# Altium schematic symbol library gps-tag-lora-addon.SchLib: 9 symbols
Pins are listed as number, name and electrical type; pins without a type are passive.

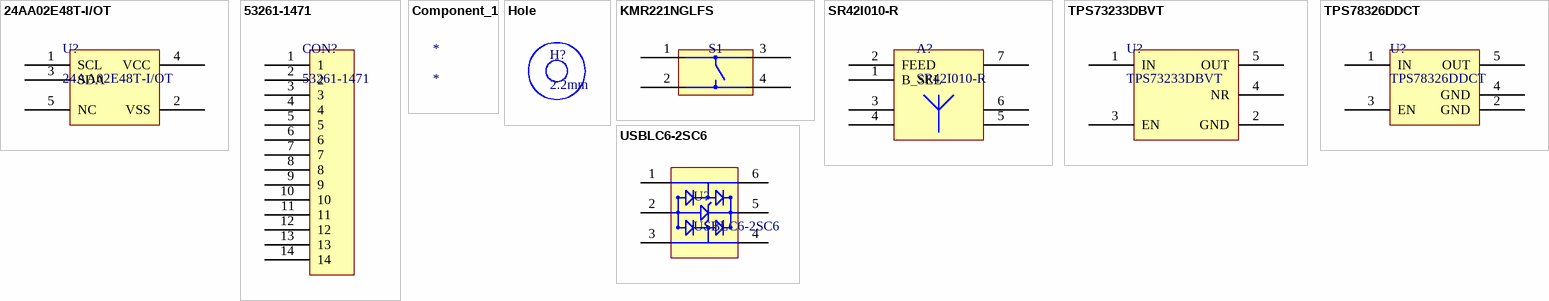
[diagram p0: symbols 24AA02E48T-I/OT to USBLC6-2SC6]

## 24AA02E48T-I/OT
designator U?
MICROCHIP   24AA02E48T-I/OT   EEPROM, EUI-48 Node Identity, 2 Kbit, 2 BLK (128K x 8bit), 400 kHz, I2C, SOT-23, 5 Pins; Interface: I2C,Serial; Access Time: 3500ns; Frequency: 400kHz; Max Supply Voltage: 5.5V; Min Supply Voltage: 1.7V; Nominal Supply Current: 3mA; Density: 2Kb; Operating Supply Voltage: 5V; Max Frequency: 100kHz; Supplier 1: Farnell; Manufacturer: Microchip; Manufacturer Part Number: 24AA02E48T-I/OT; Stock 1: 13638; Pricing 1: 1 = 0.17600, 10 = 0.17100, 25 = 0.16400, 50 = 0.16000, 100 = 0.15600 (GBP); RoHS: Yes; Mount: Surface Mount; Case/Package: SOT-23; Number of Pins: 5; Min Operating Temperature: -40°C; Max Operating Temperature: 85°C; Packaging: Tape and Reel; Package Quantity: 3000; Memory Type: EEPROM; Memory Size: 2Kb; Termination: SMD/SMT; Length: 3.1mm; Height: 1.3mm; Width: 1.8mm; Radiation Hardening: No; REACH SVHC: No SVHC; Lead Free: Lead Free; ComponentLink1URL: http://www.farnell.com/datasheets/1725195.pdf?src-supplier=Element14; ComponentLink1Description: http://www.farnell.com/datasheets/1725195.pdf?src-supplier=Element14; ComponentLink2URL: http://www.farnell.com/datasheets/631538.pdf?src-supplier=Element14; ComponentLink2Description: http://www.farnell.com/datasheets/631538.pdf?src-supplier=Element14; ComponentLink3URL: http://ww1.microchip.com/downloads/en/DeviceDoc/22124D.pdf?src-supplier=Avnet+Europe; ComponentLink3Description: http://ww1.microchip.com/downloads/en/DeviceDoc/22124D.pdf?src-supplier=Avnet+Europe; ComponentLink4URL: http://www.microchip.com/mymicrochip/filehandler.aspx?ddocname=en538826&src-supplier=Future+Electronics; ComponentLink4Description: http://www.microchip.com/mymicrochip/filehandler.aspx?ddocname=en538826&src-supplier=Future+Electronics; ComponentLink5URL: http://www.produktinfo.conrad.com/datenblaetter/650000-674999/651228-da-01-en-EEPROM_24AA02E48T_I_OT_SOT_23_5_MCP.pdf?src-supplier=Conrad; ComponentLink5Description: http://www.produktinfo.conrad.com/datenblaetter/650000-674999/651228-da-01-en-EEPROM_24AA02E48T_I_OT_SOT_23_5_MCP.pdf?src-supplier=Conrad; Supplier Part Number 1: 1688855
footprint SOT95P280X145-5N (SOT23, 5-Leads, Body 2.90x2.80mm, Pitch 0.95mm, IPC Medium Density)
pins: 1 SCL, 2 VSS, 3 SDA, 4 VCC, 5 NC

## 53261-1471
designator CON?
1.25mm (.049") Pitch PicoBlade Header, Surface Mount, Right Angle, Lead-free, 14 Circuits; Manufacturer: Molex; Body Plating: Tin; Current Rating: 1A; Voltage Rating (AC): 125V; Contact Resistance: 20mR; Number of Positions: 14; Insulation Resistance: 100MR; Gender: Male; Glow Wire Compliant: Non-compliant; Supplier 1: Farnell; Manufacturer Part Number: 53261-1471; Stock 1: 2619; Pricing 1: 10 = 1.74000, 50 = 1.63000, 100 = 1.51000, 250 = 1.37000, 500 = 1.09000, 1500 = 0.96100 (GBP); Mount: Surface Mount; Contact Plating: Tin; Contact Material: Brass,Bronze,Tin; Color: Beige; Housing Material: Thermoplastic; Min Operating Temperature: -40°C; Max Operating Temperature: 85°C; Number of Rows: 1; Voltage Rating: 125V; Package Quantity: 1000; Packaging: Tape and Reel; Termination: SMD/SMT; Number of Contacts: 14; Working Voltage: 125V; Orientation: Right Angle; Number of Circuits: 14; Voltage Rating (DC): 125V; Height: 3.4mm; Lead Pitch: 1.25mm; Pitch: 1.25mm; Radiation Hardening: No; REACH SVHC: Unknown; Lead Free: Lead Free; ComponentLink1URL: http://www.onlinecomponents.com/productFiles/mf-MOL/318250532611471_pcb_headers.pdf?src-supplier=Onlinecomponents.com; ComponentLink1Description: http://www.onlinecomponents.com/productFiles/mf-MOL/318250532611471_pcb_headers.pdf?src-supplier=Onlinecomponents.com; ComponentLink2URL: http://uk.rs-online.com/webdocs/13c4/0900766b813c44d0.pdf?src-supplier=RSComponents; ComponentLink2Description: http://uk.rs-online.com/webdocs/13c4/0900766b813c44d0.pdf?src-supplier=RSComponents; ComponentLink3URL: https://www.distrelec.biz/Web/Downloads/74/_e/gh116861-116874_e.pdf?mime=application%2Fpdf&src-supplier=Distrelec; ComponentLink3Description: https://www.distrelec.biz/Web/Downloads/74/_e/gh116861-116874_e.pdf?mime=application%2Fpdf&src-supplier=Distrelec; ComponentLink4URL: http://www.farnell.com/datasheets/1767586.pdf?src-supplier=Element14; ComponentLink4Description: http://www.farnell.com/datasheets/1767586.pdf?src-supplier=Element14; ComponentLink5URL: http://www.mouser.com/ds/2/276/0532611471_PCB_HEADERS-256969.pdf?src-supplier=Mouser; ComponentLink5Description: http://www.mouser.com/ds/2/276/0532611471_PCB_HEADERS-256969.pdf?src-supplier=Mouser; ComponentLink6URL: http://datasheet.octopart.com/532611471-Molex-datasheet-8343080.pdf?src-supplier=TME; ComponentLink6Description: http://datasheet.octopart.com/532611471-Molex-datasheet-8343080.pdf?src-supplier=TME; ComponentLink7URL: http://datasheet.octopart.com/53261-1471-Molex-datasheet-13786036.pdf?src-supplier=Molex; ComponentLink7Description: http://datasheet.octopart.com/53261-1471-Molex-datasheet-13786036.pdf?src-supplier=Molex; ComponentLink8URL: http://sigma.octopart.com/16413766/technical_drawing/Molex-53261-1471.pdf?src-supplier=Molex; ComponentLink8Description: http://sigma.octopart.com/16413766/technical_drawing/Molex-53261-1471.pdf?src-supplier=Molex; ComponentLink9URL: http://datasheet.octopart.com/53261-1471-Molex-datasheet-120153911.pdf?src-supplier=Allied+Electronics; ComponentLink9Description: http://datasheet.octopart.com/53261-1471-Molex-datasheet-120153911.pdf?src-supplier=Allied+Electronics; ComponentLink10URL: http://datasheet.octopart.com/0532611471-Molex-datasheet-11835648.pdf?src-supplier=Newark; ComponentLink10Description: http://datasheet.octopart.com/0532611471-Molex-datasheet-11835648.pdf?src-supplier=Newark; ComponentLink11URL: http://datasheet.octopart.com/53261-1471-Molex-datasheet-82508140.pdf?src-supplier=Farnell; ComponentLink11Description: http://datasheet.octopart.com/53261-1471-Molex-datasheet-82508140.pdf?src-supplier=Farnell; ComponentLink12URL: http://datasheet.octopart.com/53261-1471-Molex-datasheet-130544.pdf?src-supplier=Digi-Key; ComponentLink12Description: http://datasheet.octopart.com/53261-1471-Molex-datasheet-130544.pdf?src-supplier=Digi-Key; ComponentLink13URL: http://datasheet.octopart.com/532611471-Molex-datasheet-509611.pdf?src-supplier=Farnell; ComponentLink13Description: http://datasheet.octopart.com/532611471-Molex-datasheet-509611.pdf?src-supplier=Farnell; ComponentLink14URL: http://datasheet.octopart.com/53261-1471-Molex-datasheet-11023919.pdf?src-supplier=Farnell; ComponentLink14Description: http://datasheet.octopart.com/53261-1471-Molex-datasheet-11023919.pdf?src-supplier=Farnell; ComponentLink15URL: http://datasheet.octopart.com/53261-1471-Molex-datasheet-100429.pdf?src-supplier=Element14; ComponentLink15Description: http://datasheet.octopart.com/53261-1471-Molex-datasheet-100429.pdf?src-supplier=Element14; ComponentLink16URL: http://datasheet.octopart.com/53261-1471-Molex-datasheet-8522546.pdf?src-supplier=Element14; ComponentLink16Description: http://datasheet.octopart.com/53261-1471-Molex-datasheet-8522546.pdf?src-supplier=Element14; ComponentLink17URL: http://datasheet.octopart.com/53261-1471-Molex-datasheet-23710581.pdf?src-supplier=Electro+Sonic; ComponentLink17Description: http://datasheet.octopart.com/53261-1471-Molex-datasheet-23710581.pdf?src-supplier=Electro+Sonic; ComponentLink18URL: http://datasheet.octopart.com/53261-1471-Molex-datasheet-34442330.pdf?src-supplier=Allied+Electronics; ComponentLink18Description: http://datasheet.octopart.com/53261-1471-Molex-datasheet-34442330.pdf?src-supplier=Allied+Electronics; ComponentLink19URL: http://datasheet.octopart.com/53261-1471-Molex-datasheet-48284398.pdf?src-supplier=Newark; ComponentLink19Description: http://datasheet.octopart.com/53261-1471-Molex-datasheet-48284398.pdf?src-supplier=Newark; Supplier Part Number 1: 1125364
footprint 53261-1471
pins: 1, 2, 3, 4, 5, 6, 7, 8, 9, 10, 11, 12, 13, 14

## Component_1
designator *

## Hole
designator H?, comment 2.2mm  (no BOM)
footprint hole

## KMR221NGLFS
designator S1  (value not drawn)
SWITCH TACTILE SPST-NO 0.05A 32V; Manufacturer: ITT C&K; Manufacturer Part Number: KMR221NGLFS; Mechanical Life: 200000Cycles; Throw Configuration: SPST; Operating Force: 2N; Max Current Rating: 50mA; Power Rating: 1W; Illumination Type: Non-Illuminated; Switch Travel: 0.25mm; Switch Function: Off-Mom; Actuator Type: Standard; Actuator Length: 0.5mm; Supplier 1: Farnell; Stock 1: 3038; Pricing 1: 10 = 0.29100, 500 = 0.27600, 1000 = 0.21800, 5000 = 0.18500, 10000 = 0.18100 (GBP); RoHS: Yes; Mount: Surface Mount; Case/Package: SMD/SMT; Contact Material: Silver; Contact Plating: Silver; Min Operating Temperature: -40°C; Max Operating Temperature: 85°C; Voltage Rating (DC): 32V; Packaging: Tape and Reel; Package Quantity: 1; Max Voltage Rating (DC): 32V; Current Rating: 50mA; Termination: Gull Wing; Orientation: Straight; Length: 2.8mm; Depth: 4.6mm; Radiation Hardening: No; Lead Free: Lead Free; ComponentLink1URL: https://www.ckswitches.com/media/1479/kmr2.pdf?src-supplier=Digi-Key; ComponentLink1Description: https://www.ckswitches.com/media/1479/kmr2.pdf?src-supplier=Digi-Key; ComponentLink2URL: http://www.ck-components.com/14414/kmr2_9aug12.pdf/?src-supplier=Avnet+Europe; ComponentLink2Description: http://www.ck-components.com/14414/kmr2_9aug12.pdf/?src-supplier=Avnet+Europe; ComponentLink3URL: http://www1.futureelectronics.com/doc/C%20-%20K%20COMPONENTS/KMR221NGLFS.pdf?src-supplier=Future+Electronics; ComponentLink3Description: http://www1.futureelectronics.com/doc/C%20-%20K%20COMPONENTS/KMR221NGLFS.pdf?src-supplier=Future+Electronics; Supplier Part Number 1: 2845727
footprint SW
pins: 1, 2, 3, 4

## SR42I010-R
designator A?
Antenna SMD -4dBi Gain 870MHz/928MHz Automotive 7-Pin SMD T/R; Manufacturer: Antenova; Supplier 1: Mouser; Manufacturer Part Number: SR42I010-R; Stock 1: 3154; Pricing 1: 1 = 2.36000, 10 = 1.90000, 50 = 1.90000, 100 = 1.52000, 1000 = 1.07000, 10000 = 0.95900 (USD); Supplier Part Number 1: 237-SR42I010-R
footprint LORA_PCB_ANTENNA
pins: 1 B_SEL, 2 FEED, 3, 4, 5, 6, 7

## TPS73233DBVT
designator U?
IC REG LINEAR 3.3V 250MA SOT23-5; Manufacturer: Texas Instruments; Dropout Voltage: 40mV; Number of Outputs: 1; Max Power Dissipation: 560mW; Max Input Voltage: 5.5V; Min Input Voltage: 1.7V; Input Bias Current: 400uA; Polarity: Positive; Accuracy: 1%; Output Voltage Accuracy: 0.5%; Output Type: Fixed; Supplier 1: Digi-Key; Manufacturer Part Number: TPS73233DBVT; Stock 1: 13180; Pricing 1: 1 = 1.57000, 10 = 1.41400, 100 = 1.13640 (USD); RoHS: Yes; Case/Package: SOT-23; Number of Pins: 5; Contact Plating: Matte,Tin; Min Operating Temperature: -40°C; Max Operating Temperature: 125°C; Output Current: 250mA; Nominal Output Voltage: 3.3V; Packaging: Tape and Reel; Output Voltage: 3.3V; Package Quantity: 1; Max Output Current: 250mA; Number of Regulators: 1; Min Current Limit: 250mA; Quiescent Current: 400uA; Power Dissipation: 560mW; Min Output Voltage: 3.3V; Max Output Voltage: 3.3V; Length: 2.9mm; Height: 1.15mm; Width: 1.6mm; Radiation Hardening: No; REACH SVHC: No SVHC; Lead Free: Lead Free; ComponentLink1URL: http://www.ti.com/lit/ds/symlink/tps732.pdf?src-supplier=Newark; ComponentLink1Description: http://www.ti.com/lit/ds/symlink/tps732.pdf?src-supplier=Newark; ComponentLink2URL: http://www.ti.com/lit/ds/symlink/tps732.pdf?src-supplier=Digi-Key; ComponentLink2Description: http://www.ti.com/lit/ds/symlink/tps732.pdf?src-supplier=Digi-Key; ComponentLink3URL: http://www.farnell.com/datasheets/2008114.pdf?src-supplier=Element14; ComponentLink3Description: http://www.farnell.com/datasheets/2008114.pdf?src-supplier=Element14; ComponentLink4URL: https://www.verical.com/server-webapp/html/getDatasheet?partID=71967&src-supplier=Verical; ComponentLink4Description: https://www.verical.com/server-webapp/html/getDatasheet?partID=71967&src-supplier=Verical; ComponentLink5URL: http://www.ti.com/lit/ds/sbvs037o/sbvs037o.pdf?src-supplier=Avnet+Europe; ComponentLink5Description: http://www.ti.com/lit/ds/sbvs037o/sbvs037o.pdf?src-supplier=Avnet+Europe; ComponentLink6URL: http://www.produktinfo.conrad.com/datenblaetter/1000000-1099999/001015010-da-01-en-IC_REG_LDO_3_3V_0_TPS73233DBVT_SOT_5_TID.pdf?src-supplier=Conrad; ComponentLink6Description: http://www.produktinfo.conrad.com/datenblaetter/1000000-1099999/001015010-da-01-en-IC_REG_LDO_3_3V_0_TPS73233DBVT_SOT_5_TID.pdf?src-supplier=Conrad; Supplier Part Number 1: 296-15812-1-ND
footprint SOT95P280X145-5N (SOT23, 5-Leads, Body 2.90x2.80mm, Pitch 0.95mm, IPC Medium Density)
pins: 1 IN, 2 GND, 3 EN, 4 NR, 5 OUT

## TPS78326DDCT
designator U?
IC REG LINEAR 2.6V 150MA SOT23-5; Manufacturer: Texas Instruments; Number of Outputs: 1; Min Input Voltage: 2.2V; Max Input Voltage: 5.5V; Max Power Dissipation: 500mW; Dropout Voltage: 130mV; Polarity: Positive; Quiescent Current: 500nA; Accuracy: 2%; Output Type: Fixed; Supplier 1: Digi-Key; Manufacturer Part Number: TPS78326DDCT; Stock 1: 873; Pricing 1: 1 = 0.96000, 10 = 0.85700, 100 = 0.66810 (USD); RoHS: Yes; Mount: Surface Mount; Case/Package: TSOT; Number of Pins: 5; Min Operating Temperature: -40°C; Max Operating Temperature: 105°C; Output Voltage: 2.6V; Packaging: Tape and Reel; Max Output Current: 150mA; Package Quantity: 1; Output Current: 150mA; Number of Regulators: 1; Min Current Limit: 150mA; Nominal Output Voltage: 2.6V; Power Rating: 500mW; Power Dissipation: 500mW; Output Voltage Accuracy: 2%; Length: 3.05mm; Height: 1mm; Width: 1.75mm; Radiation Hardening: No; REACH SVHC: No SVHC; Lead Free: Lead Free; ComponentLink1URL: http://www.ti.com/lit/ds/symlink/tps783.pdf?src-supplier=Digi-Key; ComponentLink1Description: http://www.ti.com/lit/ds/symlink/tps783.pdf?src-supplier=Digi-Key; ComponentLink2URL: http://www.mouser.com/ds/2/405/sbvs133a-521627.pdf?src-supplier=Mouser; ComponentLink2Description: http://www.mouser.com/ds/2/405/sbvs133a-521627.pdf?src-supplier=Mouser; ComponentLink3URL: http://www.farnell.com/datasheets/1865508.pdf?src-supplier=Element14; ComponentLink3Description: http://www.farnell.com/datasheets/1865508.pdf?src-supplier=Element14; Supplier Part Number 1: 296-35542-1-ND
footprint SOT95P280X145-5N (SOT23, 5-Leads, Body 2.90x2.80mm, Pitch 0.95mm, IPC Medium Density)
pins: 1 IN, 2 GND, 3 EN, 4 GND, 5 OUT

## USBLC6-2SC6
designator U?
TVS DIODE 5.25VWM 17VC SOT23-6; Manufacturer: STMicroelectronics; Polarity: Bidirectional,Unidirectional; Data Rate: 480Mbps; Capacitance: 3.5pF; Operating Supply Voltage: 1.1V; Number of Elements: 1; Number of Channels: 2; Reverse Breakdown Voltage: 6V; Clamping Voltage: 17V; Working Voltage: 5V; Reverse Standoff Voltage: 5.25V; Power Line Protection: Yes; Test Current: 1mA; Max Reverse Leakage Current: 150nA; Peak Pulse Current: 5A; Element Configuration: Dual; Supplier 1: Farnell; Manufacturer Part Number: USBLC6-2SC6; Stock 1: 40838; Pricing 1: 5=0.327, 50=0.216, 100=0.165, 500=0.155, 1500=0.145 (GBP); Mount: Surface Mount; Case/Package: SOT-23; Number of Pins: 6; Contact Plating: Matte,Tin; Min Operating Temperature: -40°C; Max Operating Temperature: 125°C; Package Quantity: 3000; Packaging: Tape and Reel; Direction: Bidirectional,Unidirectional; Breakdown Voltage: 6V; Termination: SMD/SMT; Number of Bidirectional Channels: 2; Min Breakdown Voltage: 6V; ESD Protection: Yes; Max Breakdown Voltage: 6V; Leakage Current: 150nA; Length: 3.05mm; Height: 1.3mm; Width: 1.75mm; Depth: 1.75mm; Radiation Hardening: No; Lead Free: Lead Free; REACH SVHC: No SVHC; ComponentLink1URL: http://www.farnell.com/datasheets/1690354.pdf; ComponentLink1Description: http://www.farnell.com/datasheets/1690354.pdf; ComponentLink2URL: http://www.st.com/content/ccc/resource/technical/document/datasheet/06/1d/48/9c/6c/20/4a/b2/CD00050750.pdf/files/CD00050750.pdf/jcr:content/translations/en.CD00050750.pdf; ComponentLink2Description: http://www.st.com/content/ccc/resource/technical/document/datasheet/06/1d/48/9c/6c/20/4a/b2/CD00050750.pdf/files/CD00050750.pdf/jcr:content/translations/en.CD00050750.pdf; ComponentLink3URL: http://www.st.com/web/en/resource/technical/document/datasheet/CD00050750.pdf; ComponentLink3Description: http://www.st.com/web/en/resource/technical/document/datasheet/CD00050750.pdf; ComponentLink4URL: http://datasheet.iiic.cc/stmicroelectronics/USBLC6-2SC6.pdf; ComponentLink4Description: http://datasheet.iiic.cc/stmicroelectronics/USBLC6-2SC6.pdf; ComponentLink5URL: http://www.produktinfo.conrad.com/datenblaetter/1100000-1199999/001184109-da-01-en-IC_ESD_PROTECTI_USBLC6_2SC6_SOT_23_6_STM.pdf; ComponentLink5Description: http://www.produktinfo.conrad.com/datenblaetter/1100000-1199999/001184109-da-01-en-IC_ESD_PROTECTI_USBLC6_2SC6_SOT_23_6_STM.pdf; Supplier Part Number 1: 1269406
footprint SOT95P280X145-6N (SOT23, 6-Leads, Body 2.90x2.80mm, Pitch 0.95mm, IPC Medium Density)
pins: 1 (oc), 2 (oc), 3 (oc), 4 (oc), 5 (oc), 6 (oc)